# EAGLE library part BMI270 (library BMI270)
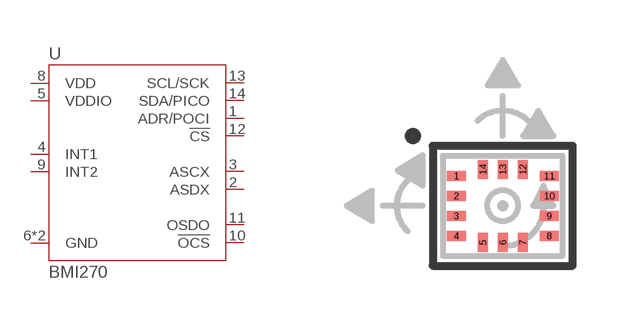
[diagram p0: symbol with the pads of BMI270; footprint BMI270]

Designator prefix U

## BMI270 (PROD_ID: IC-15423)  [BMI270]
1  ADR/POCI
2  ASDX
3  ASCX
4  INT1
5  VDDIO
6  GND
7  GND
8  VDD
9  INT2
10  !OCS!
11  OSDO
12  !CS!
13  SCL/SCK
14  SDA/PICO

## Footprint BMI270 (pad centres in mm)
smd 0.475 x 0.25: 1 -1.163,0.75; 2 -1.163,0.25; 3 -1.163,-0.25; 4 -1.163,-0.75; 8 1.163,-0.75; 9 1.163,-0.25; 10 1.163,0.25; 11 1.163,0.75
smd 0.25 x 0.475: 5 -0.5,-0.912; 6 0,-0.912; 7 0.5,-0.912; 12 0.5,0.912; 13 0,0.912; 14 -0.5,0.912